# EAGLE library part WE-LPF_0603 (library WE-LPF)
WE-LPF Multilayer Chip Low-Pass Filter Characteristics Operating temperature: –40 °C to +85 °C Power capacity up to 3 W Low insertion loss and high attenuation in the stop-band Applications RF applications Wireless communication systems like DECT, PACS, PHS, GSM, WLAN, Bluetooth … <https://katalog.we-online.com/media/images/v2/o14805v209%20Family_WE-LPF_WE-BPF.jpg> Details see: https://katalog.we-online.com/en/pbs/WE-LPF Updated by Ella Wu 2019-08-19 2019 (C) Wurth Elektronik
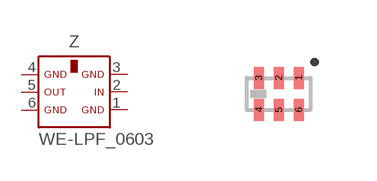
[diagram p0: symbol with the pads of WE-LPF_0603; footprint WE-LPF_0603]

Designator prefix Z

## WE-LPF_0603_748112024 (DATASHEET-URL: https://katalog.we-online.com/pbs/datasheet/748112024.pdf; MOUNT: SMT; PART-NUMBER: 748112024; PEAK-GAIN: 0.5dB; VALUE: 2400-2500 MHz; VSWR: 1.5)  [WE-LPF_0603]
1  1  pas
2  2  pas
3  3  pas
4  4  pas
5  5  pas
6  6  pas

## Footprint WE-LPF_0603 (pad centres in mm)
WE-LPF Multilayer Chip Low-Pass Filter Size: 0603
smd 0.25 x 0.55: 1 0.5,0.4; 2 0,0.4; 3 -0.5,0.4; 4 -0.5,-0.4; 5 0,-0.4; 6 0.5,-0.4